# Altium schematic symbol library 2450BM15A0002E.Schlib: 1 symbol
Pins are listed as number, name and electrical type; pins without a type are passive.

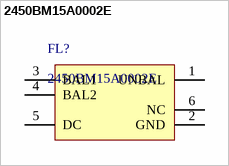
[diagram p0: symbol 2450BM15A0002E]

## 2450BM15A0002E
designator FL?
RF Balun 2.4GHz ~ 2.5GHz 50 / -Ohm 0805 (2012 Metric)
pins: 1 UNBAL, 2 GND, 3 BAL1, 4 BAL2, 5 DC, 6 NC